# EAGLE library part ISSI (library SamacSys_Parts)
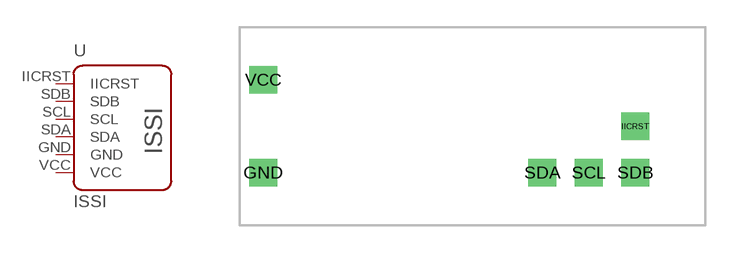
[diagram p4: symbol with the pads of ISSI; footprint ISSI]

Designator prefix -

## ISSI  [ISSI]
GND  GND  pas
IICRST  IICRST  pas
SCL  SCL  pas
SDA  SDA  pas
SDB  SDB  pas
VCC  VCC  pas

## Footprint ISSI (pad centres in mm)
drill 1 square: GND -11.43,-2.54; IICRST 8.89,0; SCL 6.35,-2.54; SDA 3.81,-2.54; SDB 8.89,-2.54; VCC -11.43,2.54